# EAGLE library part WEMOS_D1_MINI (library WEMOS_D1_MINI)
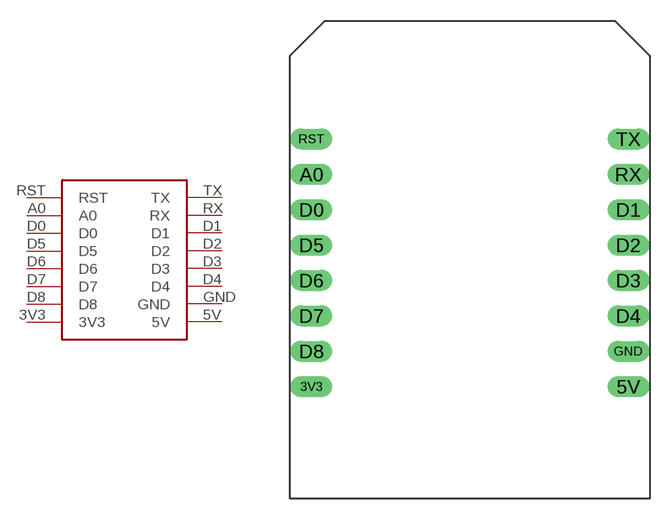
[diagram p0: symbol with the pads of WEMOS_D1_MINI; footprint WEMOS_D1_MINI]

Designator prefix -

## WEMOS_D1_MINI  [WEMOS_D1_MINI]
3V3  3V3
5V  5V
A0  A0
D0  D0
D1  D1
D2  D2
D3  D3
D4  D4
D5  D5
D6  D6
D7  D7
D8  D8
GND  GND
RST  RST
RX  RX
TX  TX

## Footprint WEMOS_D1_MINI (pad centres in mm)
drill 1 long: 3V3 -11.372,-9.107; 5V 11.372,-9.107; A0 -11.372,6.133; D0 -11.372,3.593; D1 11.372,3.593; D2 11.372,1.053; D3 11.372,-1.487; D4 11.372,-4.027; D5 -11.372,1.053; D6 -11.372,-1.487; D7 -11.372,-4.027; D8 -11.372,-6.567; GND 11.372,-6.567; RST -11.372,8.673; RX 11.372,6.133; TX 11.372,8.673